# EAGLE library part 74*1G74 (library noah)
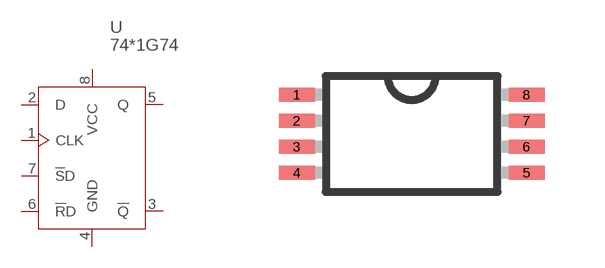
[diagram p34: symbol with the pads of TSSOP8; footprint TSSOP8]

Designator prefix U

## 741G74  [TSSOP8]
1  CLK
2  D
3  !Q
4  GND
5  Q
6  !R!D
7  !S!D
8  VCC

## Footprint TSSOP8 (pad centres in mm)
8-Lead Thin Shrink Small Outline Package Source: http://www.analog.com/static/imported-files/data_sheets/AD8541_8542_8544.pdf
smd 0.9 x 0.35: 1 -2.875,0.975; 2 -2.875,0.325; 3 -2.875,-0.325; 4 -2.875,-0.975; 5 2.875,-0.975; 6 2.875,-0.325; 7 2.875,0.325; 8 2.875,0.975